# EAGLE library part DM3AT-SF-PEJM5_41_ (library DM3AT-SF-PEJM5_41_)
Memory Card Connectors SD R/A PUSH-PUSH SMD CONN MICRO Source: Datasheet <https://www.hirose.com/en/product/document?clcode=CL0609-0031-0-00&productname=DM3AT-SF-PEJM5&series=DM3&documenttype=2DDrawing&lang=en&documentid=0000947170>
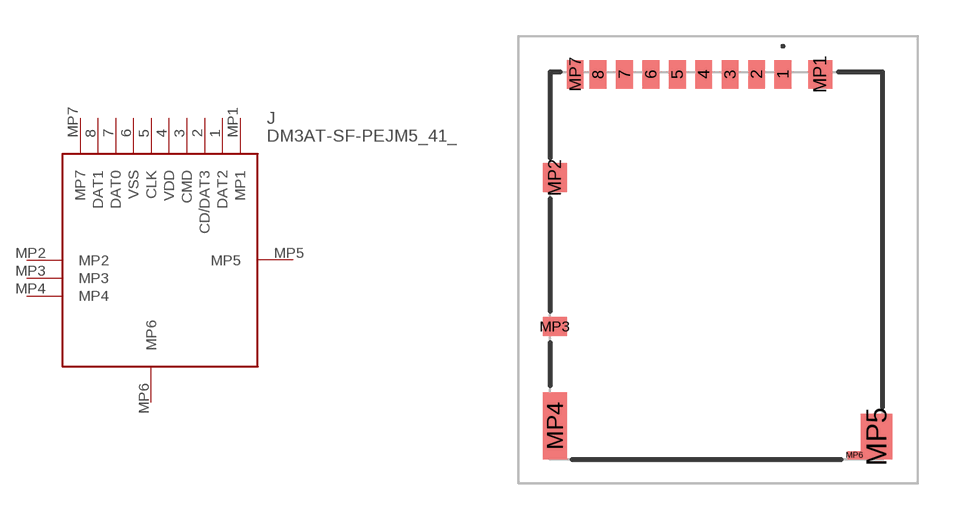
[diagram p0: symbol with the pads of DM3ATSFPEJM541; footprint DM3ATSFPEJM541]

Designator prefix J

## DM3AT-SF-PEJM5_41_ (Description: Memory Card Connectors SD R/A PUSH-PUSH SMD CONN MICRO; Height: mm; Manufacturer_Name: Hirose; Manufacturer_Part_Number: DM3AT-SF-PEJM5(41); Mouser_Part_Number: 798-DM3ATSFPEJM541; Mouser_Price-Stock: https://www.mouser.co.uk/ProductDetail/Hirose-Connector/DM3AT-SF-PEJM541?qs=iyLo5FA4poAlFf1J7h9Amg%3D%3D)  [DM3ATSFPEJM541]
1  DAT2
2  CD/DAT3
3  CMD
4  VDD
5  CLK
6  VSS
7  DAT0
8  DAT1
MP1  MP1
MP2  MP2
MP3  MP3
MP4  MP4
MP5  MP5
MP6  MP6
MP7  MP7

## Footprint DM3ATSFPEJM541 (pad centres in mm)
DM3AT-SF-PEJM5(41)-10
smd 0.7 x 1.2: 1 2.775,7.975; 2 1.675,7.975; 3 0.575,7.975; 4 -0.525,7.975; 5 -1.625,7.975; 6 -2.725,7.975; 7 -3.825,7.975; 8 -4.925,7.975; MP7 -5.875,7.975
smd 1 x 1.2: MP1 4.325,7.975; MP2 -6.725,3.675
smd 1 x 0.8: MP3 -6.725,-2.525
smd 1 x 2.8: MP4 -6.725,-6.675
smd 1.3 x 1.9: MP5 6.675,-7.125
smd 0.55 x 0.35: MP6 5.75,-7.9